# Altium schematic symbol library DF9-21S-1V_32.SchLib: 2 symbols
Pins are listed as number, name and electrical type; pins without a type are passive.

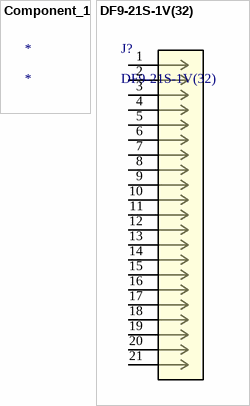
[diagram p0: symbols Component_1 to DF9-21S-1V(32)]

## Component_1
designator *

## DF9-21S-1V(32)
designator J?
No Description Available; Mfr_Name: JAE Electronics; Copyright: Copyright (C) 2023 Ultra Librarian. All rights reserved.; Manufacturer_Part_Number: DF9-21S-1V(32); Digi-Key_Part_Number_1: H10403CT-ND; Digi-Key_Part_Number_2: H10403DKR-ND; Digi-Key_Part_Number_3: H10403TR-ND; RefDes: RefDes; Type: DEV
footprint CON9_1X21_DZL_DF9_JAE
pins: 1, 2, 3, 4, 5, 6, 7, 8, 9, 10, 11, 12, 13, 14, 15, 16, 17, 18, 19, 20, 21